# EAGLE library part VS1033/1053 (library ecad)
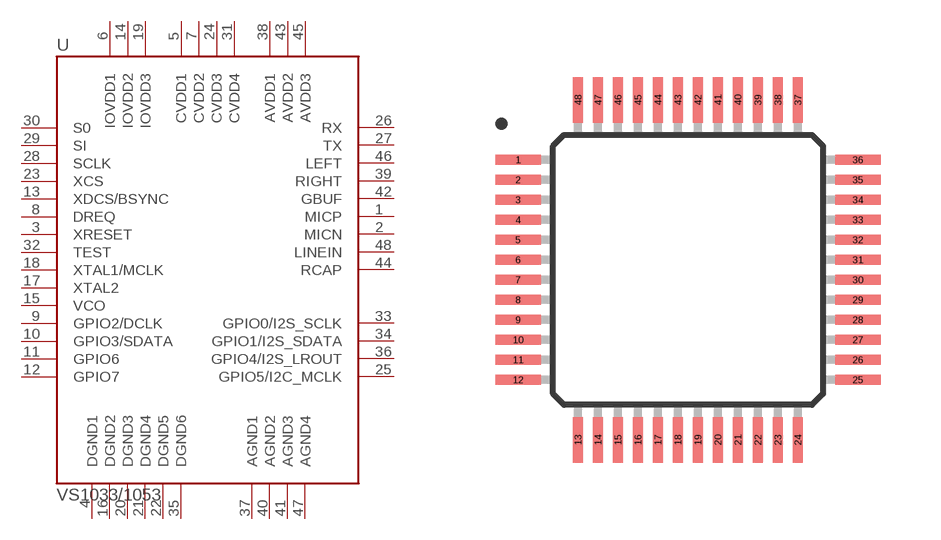
[diagram p0: symbol with the pads of LQFP-48; footprint LQFP-48]

Designator prefix U

## VS1033/1053SMD (PROD_ID: IC-08983; VALUE: VS1053B)  [LQFP-48]
1  MICP  pas
2  MICN  pas
3  XRESET  pas
4  DGND1  pas
5  CVDD1  pas
6  IOVDD1  pas
7  CVDD2  pas
8  DREQ  pas
9  GPIO2/DCLK  pas
10  GPIO3/SDATA  pas
11  GPIO6  pas
12  GPIO7  pas
13  XDCS/BSYNC  pas
14  IOVDD2  pas
15  VCO  pas
16  DGND2  pas
17  XTAL2  pas
18  XTAL1/MCLK  pas
19  IOVDD3  pas
20  DGND3  pas
21  DGND4  pas
22  DGND5  pas
23  XCS  pas
24  CVDD3  pas
25  GPIO5/I2C_MCLK  pas
26  RX  pas
27  TX  pas
28  SCLK  pas
29  SI  pas
30  S0  pas
31  CVDD4  pas
32  TEST  pas
33  GPIO0/I2S_SCLK  pas
34  GPIO1/I2S_SDATA  pas
35  DGND6  pas
36  GPIO4/I2S_LROUT  pas
37  AGND1  pas
38  AVDD1  pas
39  RIGHT  pas
40  AGND2  pas
41  AGND3  pas
42  GBUF  pas
43  AVDD2  pas
44  RCAP  pas
45  AVDD3  pas
46  LEFT  pas
47  AGND4  pas
48  LINEIN  pas

## Footprint LQFP-48 (pad centres in mm)
smd 1.143 x 0.254: 1 -4.25,2.75; 2 -4.25,2.25; 3 -4.25,1.75; 4 -4.25,1.25; 5 -4.25,0.75; 6 -4.25,0.25; 7 -4.25,-0.25; 8 -4.25,-0.75; 9 -4.25,-1.25; 10 -4.25,-1.75; 11 -4.25,-2.25; 12 -4.25,-2.75; 25 4.25,-2.75; 26 4.25,-2.25; 27 4.25,-1.75; 28 4.25,-1.25; 29 4.25,-0.75; 30 4.25,-0.25; 31 4.25,0.25; 32 4.25,0.75; 33 4.25,1.25; 34 4.25,1.75; 35 4.25,2.25; 36 4.25,2.75
smd 0.254 x 1.143: 13 -2.75,-4.25; 14 -2.25,-4.25; 15 -1.75,-4.25; 16 -1.25,-4.25; 17 -0.75,-4.25; 18 -0.25,-4.25; 19 0.25,-4.25; 20 0.75,-4.25; 21 1.25,-4.25; 22 1.75,-4.25; 23 2.25,-4.25; 24 2.75,-4.25; 37 2.75,4.25; 38 2.25,4.25; 39 1.75,4.25; 40 1.25,4.25; 41 0.75,4.25; 42 0.25,4.25; 43 -0.25,4.25; 44 -0.75,4.25; 45 -1.25,4.25; 46 -1.75,4.25; 47 -2.25,4.25; 48 -2.75,4.25